# EAGLE library part LIS3L02AS4 (library ic)
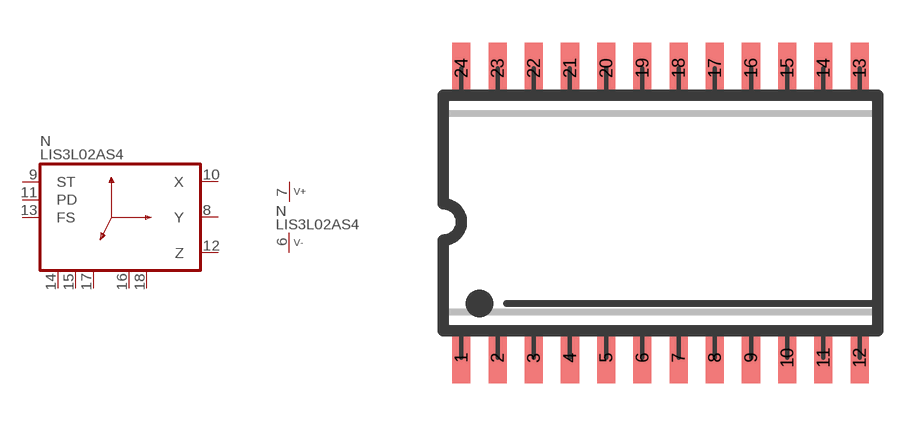
[diagram p110: symbol with the pads of SO24; footprint SO24]

Designator prefix N; gates  =LIS3L02 P=V+-

## LIS3L02AS4  [SO24]
6  P:V-  pwr
7  P:V+  pwr
8   :Y  out
9   :ST  in
10   :X  out
11   :PD  in
12   :Z  out
13   :FS  in
14   :14
15   :15
16   :16
17   :17
18   :18

## Footprint SO24 (pad centres in mm)
SO-24, SMD SOIC IC package, 24 pins
smd 0.635 x 1.778: 1 -6.985,-5.08; 2 -5.715,-5.08; 3 -4.445,-5.08; 4 -3.175,-5.08; 5 -1.905,-5.08; 6 -0.635,-5.08; 7 0.635,-5.08; 8 1.905,-5.08; 9 3.175,-5.08; 10 4.445,-5.08; 11 5.715,-5.08; 12 6.985,-5.08; 13 6.985,5.08; 14 5.715,5.08; 15 4.445,5.08; 16 3.175,5.08; 17 1.905,5.08; 18 0.635,5.08; 19 -0.635,5.08; 20 -1.905,5.08; 21 -3.175,5.08; 22 -4.445,5.08; 23 -5.715,5.08; 24 -6.985,5.08